# EAGLE library part XR-9080Q (library exar)
DATA SYNCHRONIZER/RLL ENDEC
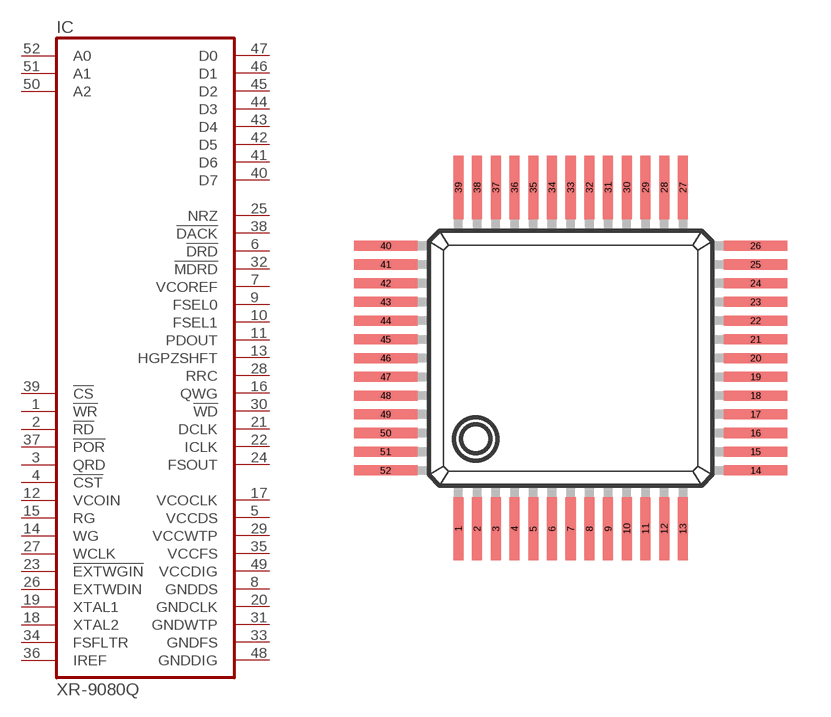
[diagram p8: symbol with the pads of QFP-52; footprint QFP-52]

Designator prefix IC

## XR-9080Q (OC_FARNELL: unknown; OC_NEWARK: unknown)  [QFP-52]
1  !WR  in
2  !RD  in
3  QRD  in
4  !CST  in
5  VCCDS  pwr
6  !DRD  out
7  VCOREF  out
8  GNDDS  pwr
9  FSEL0  out
10  FSEL1  out
11  PDOUT  out
12  VCOIN  in
13  HGPZSHFT  out
14  WG  in
15  RG  in
16  QWG  out
17  VCOCLK  out
18  XTAL2  in
19  XTAL1  in
20  GNDCLK  pwr
21  DCLK  out
22  ICLK  out
23  !EXTWGIN  in
24  FSOUT  out
25  NRZ
26  EXTWDIN  in
27  WCLK  in
28  RRC  out
29  VCCWTP  pwr
30  !WD  out
31  GNDWTP  pwr
32  !MDRD  out
33  GNDFS  pwr
34  FSFLTR  in
35  VCCFS  pwr
36  IREF  in
37  !POR  in
38  !DACK  out
39  !CS  in
40  D7
41  D6
42  D5
43  D4
44  D3
45  D2
46  D1
47  D0
48  GNDDIG  pwr
49  VCCDIG  pwr
50  A2  in
51  A1  in
52  A0  in

## Footprint QFP-52 (pad centres in mm)
Quad Flat Package
smd 0.35 x 2.2: 1 -3.575,-6.25; 2 -2.925,-6.25; 3 -2.275,-6.25; 4 -1.625,-6.25; 5 -0.975,-6.25; 6 -0.325,-6.25; 7 0.325,-6.25; 8 0.975,-6.25; 9 1.625,-6.25; 10 2.275,-6.25; 11 2.925,-6.25; 12 3.575,-6.25; 13 4.225,-6.25; 27 4.225,5.6; 28 3.575,5.6; 29 2.925,5.6; 30 2.275,5.6; 31 1.625,5.6; 32 0.975,5.6; 33 0.325,5.6; 34 -0.325,5.6; 35 -0.975,5.6; 36 -1.625,5.6; 37 -2.275,5.6; 38 -2.925,5.6; 39 -3.575,5.6
smd 2.2 x 0.35: 14 6.75,-4.225; 15 6.75,-3.575; 16 6.75,-2.925; 17 6.75,-2.275; 18 6.75,-1.625; 19 6.75,-0.975; 20 6.75,-0.325; 21 6.75,0.325; 22 6.75,0.975; 23 6.75,1.625; 24 6.75,2.275; 25 6.75,2.925; 26 6.75,3.575; 40 -6.1,3.575; 41 -6.1,2.925; 42 -6.1,2.275; 43 -6.1,1.625; 44 -6.1,0.975; 45 -6.1,0.325; 46 -6.1,-0.325; 47 -6.1,-0.975; 48 -6.1,-1.625; 49 -6.1,-2.275; 50 -6.1,-2.925; 51 -6.1,-3.575; 52 -6.1,-4.225